# EAGLE library part DC_JACK_DIP (library user_conector)
秋月のDCジャックDIP化キット スルーホールの両面ユニバーサル基板で用いる場合はキットの裏面を絶縁することをお勧めする
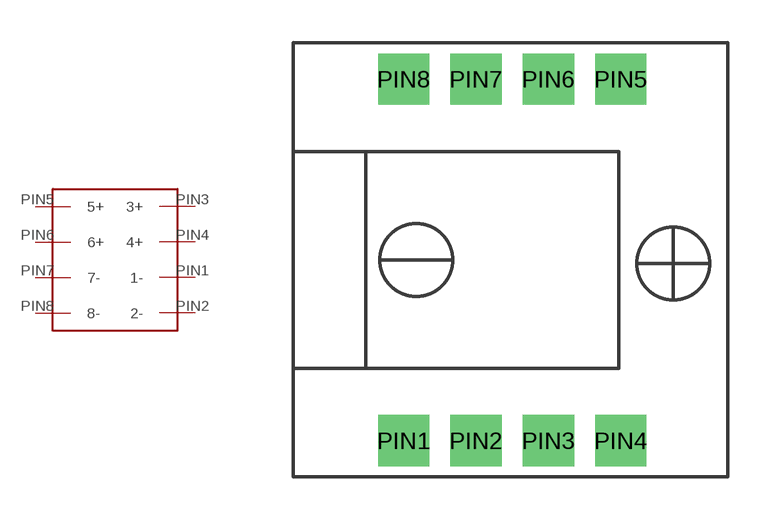
[diagram p3: symbol with the pads of DC_JACK_DIP; footprint DC_JACK_DIP]

Designator prefix -

## DC_JACK_DIP  [DC_JACK_DIP]
PIN1  1-
PIN2  2-
PIN3  3+
PIN4  4+
PIN5  5+
PIN6  6+
PIN7  7-
PIN8  8-

## Footprint DC_JACK_DIP (pad centres in mm)
drill 1.2 square: PIN1 3.875,1.27; PIN2 6.415,1.27; PIN3 8.955,1.27; PIN4 11.495,1.27; PIN5 11.495,13.97; PIN6 8.955,13.97; PIN7 6.415,13.97; PIN8 3.875,13.97